# Altium schematic symbol library LogoGICM.SchLib: 1 symbol
Pins are listed as number, name and electrical type; pins without a type are passive.

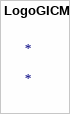
[diagram p0: symbol LogoGICM]

## LogoGICM
designator *
footprint LOGO